# Altium footprint library Inductor.PcbLib: 8 footprints
Each footprint in its own frame and in the unit in brackets; x right, y up, seen from the top. Pads: shape width x height; smd on the part's side, far side on the other; paste and mask are expansions set on the pad; w line width, h text height; cw(c..) or ccw(c..) is an arc to the next point about the centre after c.
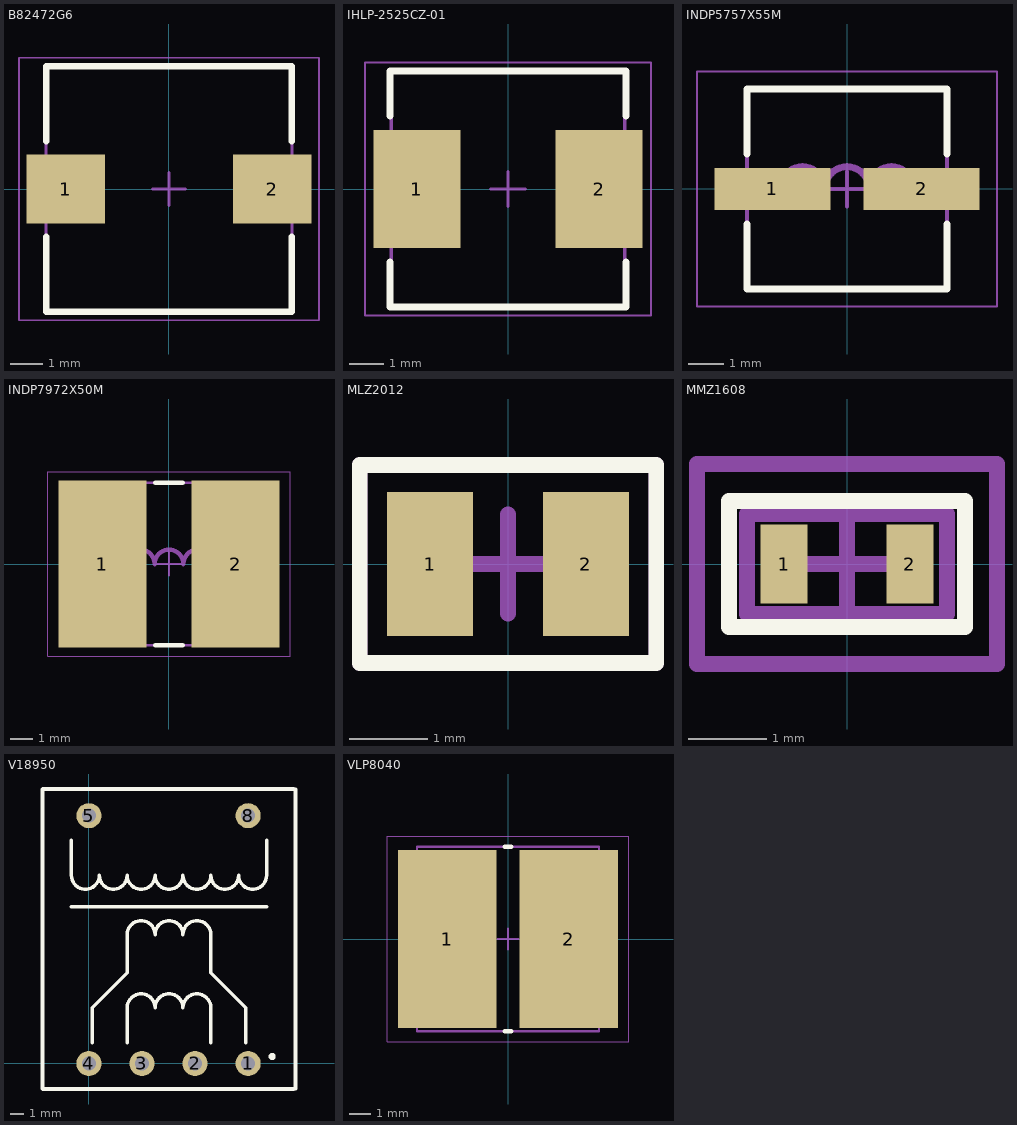
[diagram p0: the footprints below, top view; thin cyan lines are the x and y axes]

## B82472G6 [mm] "Precision Wire Wound Inductor, 2-Leads, Body 7,30x7,30mm, IPC Medium Density"
height 4.5
pads (2):
  rect 2.4x2.1 smd: 1(-3.15,0) 2(3.15,0)
Top Overlay:
  lines w0.2: -3.75,-1.45 -3.75,-3.75 3.75,-3.75 3.75,-1.45 ; -3.75,1.45 -3.75,3.75 3.75,3.75 3.75,1.45
Mechanical 13:
  lines w0.1: -3.75,-3.75 3.75,-3.75 3.75,3.75 -3.75,3.75 -3.75,-3.75
Mechanical 15:
  lines w0.05: -4.575,-4 4.575,-4 4.575,4 -4.575,4 -4.575,-4
  lines w0.1: -0.5,0 0.5,0 ; 0,-0.5 0,0.5
3D body "B82472G6.step": height 4.6, standoff 0, extent -3.75,-3.65 3.75,3.65

## IHLP-2525CZ-01 [mm] "Molded Inductor, 2-Leads, Body 6,47x6,47mm, IPC Medium Density"
height 3
pads (2):
  rect 2.5x3.4 smd: 1(-2.625,0) 2(2.625,0)
Top Overlay:
  lines w0.2: -3.4,-2.1 -3.4,-3.4 3.4,-3.4 3.4,-2.1 ; -3.4,2.1 -3.4,3.4 3.4,3.4 3.4,2.1
Mechanical 13:
  lines w0.1: -3.36,-3.36 -3.36,3.36 3.36,3.36 3.36,-3.36 -3.36,-3.36
Mechanical 15:
  lines w0.05: -4.125,-3.65 -4.125,3.65 4.125,3.65 4.125,-3.65 -4.125,-3.65
  lines w0.1: -0.5,0 0.5,0 ; 0,-0.5 0,0.5
3D body "IHLP-2525CZ-01.step": height 3, standoff 0, extent -3.58,-3.36 3.58,3.36

## INDP5757X55M [mm] "Precision Wire Wound Inductor, 2-Leads, Body 5,70x5,70mm, IPC Low Density"
height 5.45
pads (2):
  rect 3.3x1.2 smd: 1(-2.125,0) 2(2.125,0)
Top Overlay:
  lines w0.2: -2.85,-1 -2.85,-2.85 2.85,-2.85 2.85,-1 ; -2.85,1 -2.85,2.85 2.85,2.85 2.85,1
Mechanical 13:
  lines w0.1: -2.85,-2.85 2.85,-2.85 2.85,2.85 -2.85,2.85 -2.85,-2.85
  lines w0.2: -2.54,0 -1.905,0 cw(c-1.27,0) -1.27,0.635 cw(c-1.27,0) -0.635,0 cw(c0,0) 0,0.635 cw(c0,0) 0.635,0 cw(c1.27,0) 1.27,0.635 cw(c1.27,0) 1.905,0 2.54,0
Mechanical 15:
  lines w0.05: -4.275,-3.35 4.275,-3.35 4.275,3.35 -4.275,3.35 -4.275,-3.35
  lines w0.1: -0.5,0 0.5,0 ; 0,-0.5 0,0.5
3D body: height 5.45, standoff 0, extent -2.85,-2.85 2.85,2.85

## INDP7972X50M [mm] "Precision Wire Wound Inductor, 2-Leads, Body 7,90x7,20mm, IPC Low Density"
height 5
pads (2):
  rect 3.9x7.4 smd: 1(-2.95,0) 2(2.95,0)
Top Overlay:
  lines w0.2: -0.6,-3.6 0.6,-3.6 ; -0.6,3.6 0.6,3.6
Mechanical 13:
  lines w0.1: -3.95,-3.6 3.95,-3.6 3.95,3.6 -3.95,3.6 -3.95,-3.6
  lines w0.2: -2.54,0 -1.905,0 cw(c-1.27,0) -1.27,0.635 cw(c-1.27,0) -0.635,0 cw(c0,0) 0,0.635 cw(c0,0) 0.635,0 cw(c1.27,0) 1.27,0.635 cw(c1.27,0) 1.905,0 2.54,0
Mechanical 15:
  lines w0.05: -5.375,-4.1 5.375,-4.1 5.375,4.1 -5.375,4.1 -5.375,-4.1
  lines w0.1: -0.5,0 0.5,0 ; 0,-0.5 0,0.5
3D body: height 5, standoff 0, extent -3.95,-3.6 3.95,3.6

## MLZ2012 [mm]
pads (2):
  rect 1.1x1.85 smd: 1(-1,0) 2(1,0)
Top Overlay:
  lines w0.2: -1.905,-1.27 1.905,-1.27 1.905,1.27 -1.905,1.27 -1.905,-1.27
Mechanical 13:
  lines w0.2: -1.905,-1.27 1.905,-1.27 1.905,1.27 -1.905,1.27 -1.905,-1.27
Mechanical 15:
  lines w0.2: -0.635,0 0,0 ; 0,-0.635 0,0 ; 0,0.635 0,0 ; 0.635,0 0,0 ; -1.905,-1.27 -1.905,1.27 1.905,1.27 1.905,-1.27 -1.905,-1.27
3D body: height 1.3, standoff 0.1, extent 0.8,-0.6 1,0.6
3D body: height 1.3, standoff 0.1, extent -1,-0.6 -0.8,0.6
3D body: height 1.3, standoff 0.1, extent -0.8,-0.6 0.8,0.6

## MMZ1608 [mm]
pads (2):
  rect 0.6x1 smd: 1(-0.8,0) 2(0.8,0)
Top Overlay:
  lines w0.2: -1.5,-0.8 -1.5,0 -1.5,0.8 1.5,0.8 1.5,-0.8 -1.5,-0.8
Mechanical 13:
  lines w0.2: -1.27,-0.635 1.27,-0.635 1.27,0.635 -1.27,0.635 -1.27,-0.635
Mechanical 15:
  lines w0.2: -0.635,0 0,0 ; 0,-0.635 0,0 ; 0,0.635 0,0 ; 0.635,0 0,0 ; -1.905,-1.27 -1.905,1.27 1.905,1.27 1.905,-1.27 -1.905,-1.27
3D body: height 0.9, standoff 0.1, extent -0.5,-0.4 0.5,0.4
3D body: height 0.9, standoff 0.1, extent 0.5,-0.4 0.8,0.4
3D body: height 0.9, standoff 0.1, extent -0.8,-0.4 -0.5,0.4

## V18950 [mm] "Transformer"
height 18
pads (6):
  round 1.8 hole 1: 1(11.43,0) 2(7.62,0) 3(3.81,0) 4(0,0) 5(0,17.78) 8(11.43,17.78)
Top Overlay:
  circle w0.254: c13.15,0.5 r0.127
  lines w0.254: -3.325,-1.825 -3.325,19.675 ; -3.295,-1.83 14.705,-1.83 ; -3.295,19.695 14.705,19.695 ; -1.25,11.25 12.75,11.25 ; -1.25,16 -1.25,13.5 ccw(c-0.25,13.5) 0.75,13.5 ccw(c1.75,13.5) 2.75,13.5 ccw(c3.75,13.5) 4.75,13.5 ccw(c5.75,13.5) 6.75,13.5 ccw(c7.75,13.5) 8.75,13.5 ccw(c9.75,13.5) 10.75,13.5 ccw(c11.75,13.5) 12.75,13.5 12.75,16 ; 0.25,1.5 0.25,4 2.75,6.5 2.75,9.25 cw(c3.75,9.25) 4.75,9.25 cw(c5.75,9.25) 6.75,9.25 cw(c7.75,9.25) 8.75,9.25 8.75,6.5 11.25,4 11.25,1.5 ; 2.75,1.5 2.75,4 cw(c3.75,4) 4.75,4 cw(c5.75,4) 6.75,4 cw(c7.75,4) 8.75,4 8.75,1.5 ; 14.825,-1.825 14.825,19.675

## VLP8040 [mm] "Wound Ferrite, Inductors for Power Circuits"
height 4
pads (2):
  rect 4.65x8.4 smd: 1(-2.875,0) 2(2.875,0)
Top Overlay:
  lines w0.2: -0.15,-4.35 0.15,-4.35 ; -0.15,4.35 0.15,4.35
Mechanical 13:
  lines w0.1: -4.3,-4.35 -4.3,4.35 4.3,4.35 4.3,-4.35 -4.3,-4.35
Mechanical 15:
  lines w0.05: -5.7,-4.85 -5.7,4.85 5.7,4.85 5.7,-4.85 -5.7,-4.85
  lines w0.1: -0.5,0 0.5,0 ; 0,-0.5 0,0.5
3D body: height 4, standoff 0, extent -4.3,-4.35 4.3,4.35